# EAGLE library part 74LVC125APW,118 (library NXP_By_element14_Batch_1)
Quad buffer/line driver with 5 V tolerant input/outputs
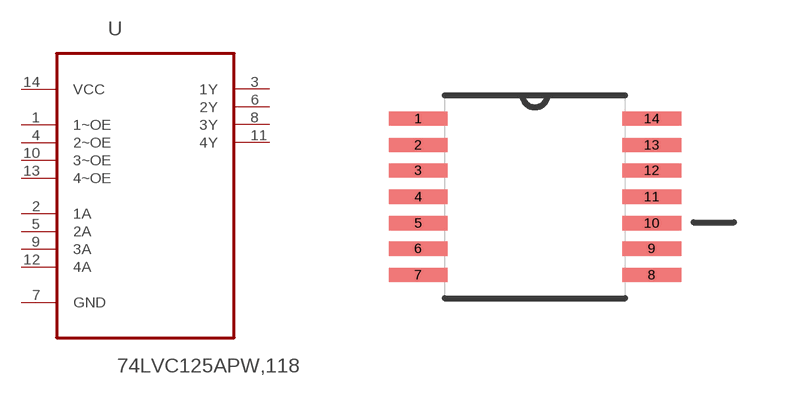
[diagram p227: symbol with the pads of SOP65P640X110-14N; footprint SOP65P640X110-14N]

Designator prefix U

## 74LVC125APW,118 (MPN: 74LVC125APW,118; OC_FARNELL: 1826647; OC_NEWARK: 78R7407; P1I: o; PACKAGE: TSSOP-14; SUPPLIER: NXP)  [SOP65P640X110-14N]
1  1~OE  in
2  1A  in
3  1Y  out
4  2~OE  in
5  2A  in
6  2Y  out
7  GND  in
8  3Y  out
9  3A  in
10  3~OE  in
11  4Y  out
12  4A  in
13  4~OE  in
14  VCC  pwr

## Footprint SOP65P640X110-14N (pad centres in mm)
smd 1.473 x 0.356: 1 -2.921,1.956; 2 -2.921,1.295; 3 -2.921,0.66; 4 -2.921,0; 5 -2.921,-0.66; 6 -2.921,-1.295; 7 -2.921,-1.956; 8 2.921,-1.956; 9 2.921,-1.295; 10 2.921,-0.66; 11 2.921,0; 12 2.921,0.66; 13 2.921,1.295; 14 2.921,1.956